# EAGLE library part INTERNAL-EXPANSION-PORT (library 6502-board-expansion)
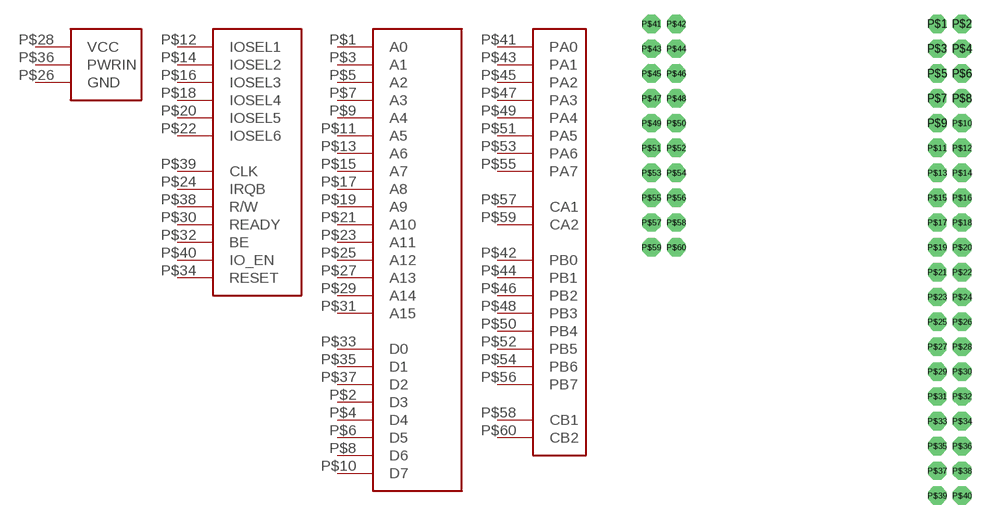
[diagram p0: symbol with the pads of INTERNAL-EXPANSION-PORT; footprint INTERNAL-EXPANSION-PORT]

Designator prefix -; gates G$1=POWER-BUS G$2=OTHER-IO G$3=CPU-BUS G$4=IO-BUS

## INTERNAL-EXPANSION-PORT  [INTERNAL-EXPANSION-PORT]
P$1  G$3:A0
P$2  G$3:D3
P$3  G$3:A1
P$4  G$3:D4
P$5  G$3:A2
P$6  G$3:D5
P$7  G$3:A3
P$8  G$3:D6
P$9  G$3:A4
P$10  G$3:D7
P$11  G$3:A5
P$12  G$2:IOSEL1
P$13  G$3:A6
P$14  G$2:IOSEL2
P$15  G$3:A7
P$16  G$2:IOSEL3
P$17  G$3:A8
P$18  G$2:IOSEL4
P$19  G$3:A9
P$20  G$2:IOSEL5
P$21  G$3:A10
P$22  G$2:IOSEL6
P$23  G$3:A11
P$24  G$2:IRQB
P$25  G$3:A12
P$26  G$1:GND
P$27  G$3:A13
P$28  G$1:VCC
P$29  G$3:A14
P$30  G$2:READY
P$31  G$3:A15
P$32  G$2:BE
P$33  G$3:D0
P$34  G$2:RESET
P$35  G$3:D1
P$36  G$1:PWRIN
P$37  G$3:D2
P$38  G$2:R/W
P$39  G$2:CLK
P$40  G$2:IO_EN
P$41  G$4:PA0
P$42  G$4:PB0
P$43  G$4:PA1
P$44  G$4:PB1
P$45  G$4:PA2
P$46  G$4:PB2
P$47  G$4:PA3
P$48  G$4:PB3
P$49  G$4:PA4
P$50  G$4:PB4
P$51  G$4:PA5
P$52  G$4:PB5
P$53  G$4:PA6
P$54  G$4:PB6
P$55  G$4:PA7
P$56  G$4:PB7
P$57  G$4:CA1
P$58  G$4:CB1
P$59  G$4:CA2
P$60  G$4:CB2

## Footprint INTERNAL-EXPANSION-PORT (pad centres in mm)
drill 1.016 pad 1.88 octagon: P$1 26.67,0; P$2 29.21,0; P$3 26.67,-2.54; P$4 29.21,-2.54; P$5 26.67,-5.08; P$6 29.21,-5.08; P$7 26.67,-7.62; P$8 29.21,-7.62; P$9 26.67,-10.16; P$10 29.21,-10.16; P$11 26.67,-12.7; P$12 29.21,-12.7; P$13 26.67,-15.24; P$14 29.21,-15.24; P$15 26.67,-17.78; P$16 29.21,-17.78; P$17 26.67,-20.32; P$18 29.21,-20.32; P$19 26.67,-22.86; P$20 29.21,-22.86; P$21 26.67,-25.4; P$22 29.21,-25.4; P$23 26.67,-27.94; P$24 29.21,-27.94; P$25 26.67,-30.48; P$26 29.21,-30.48; P$27 26.67,-33.02; P$28 29.21,-33.02; P$29 26.67,-35.56; P$30 29.21,-35.56; P$31 26.67,-38.1; P$32 29.21,-38.1; P$33 26.67,-40.64; P$34 29.21,-40.64; P$35 26.67,-43.18; P$36 29.21,-43.18; P$37 26.67,-45.72; P$38 29.21,-45.72; P$39 26.67,-48.26; P$40 29.21,-48.26; P$41 -2.54,0; P$42 0,0; P$43 -2.54,-2.54; P$44 0,-2.54; P$45 -2.54,-5.08; P$46 0,-5.08; P$47 -2.54,-7.62; P$48 0,-7.62; P$49 -2.54,-10.16; P$50 0,-10.16; P$51 -2.54,-12.7; P$52 0,-12.7; P$53 -2.54,-15.24; P$54 0,-15.24; P$55 -2.54,-17.78; P$56 0,-17.78; P$57 -2.54,-20.32; P$58 0,-20.32; P$59 -2.54,-22.86; P$60 0,-22.86